# EAGLE library part USBUART (library logik)
Conrad Mini USB to UART Converter
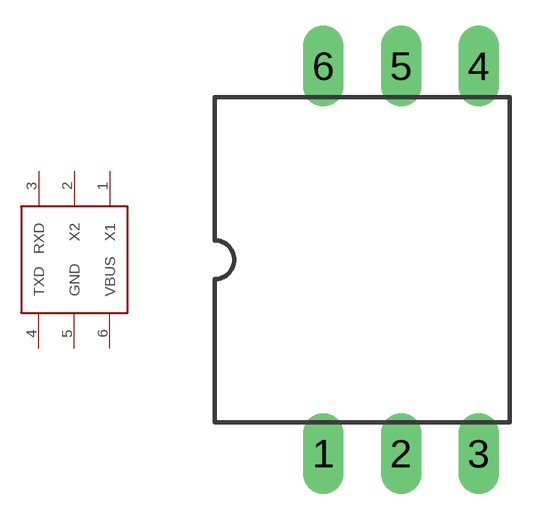
[diagram p4: symbol with the pads of DIL6-6; footprint DIL6-6]

Designator prefix -

## USBUART  [DIL6-6]
1  X1
2  X2
3  RXD
4  TXD
5  GND
6  VBUS

## Footprint DIL6-6 (pad centres in mm)
drill 0.813 long: 1 -1.27,-6.35; 2 1.27,-6.35; 3 3.81,-6.35; 4 3.81,6.35; 5 1.27,6.35; 6 -1.27,6.35